# Altium schematic symbol library WE-TVSP.SchLib: 358 symbols (part 6 of 7)
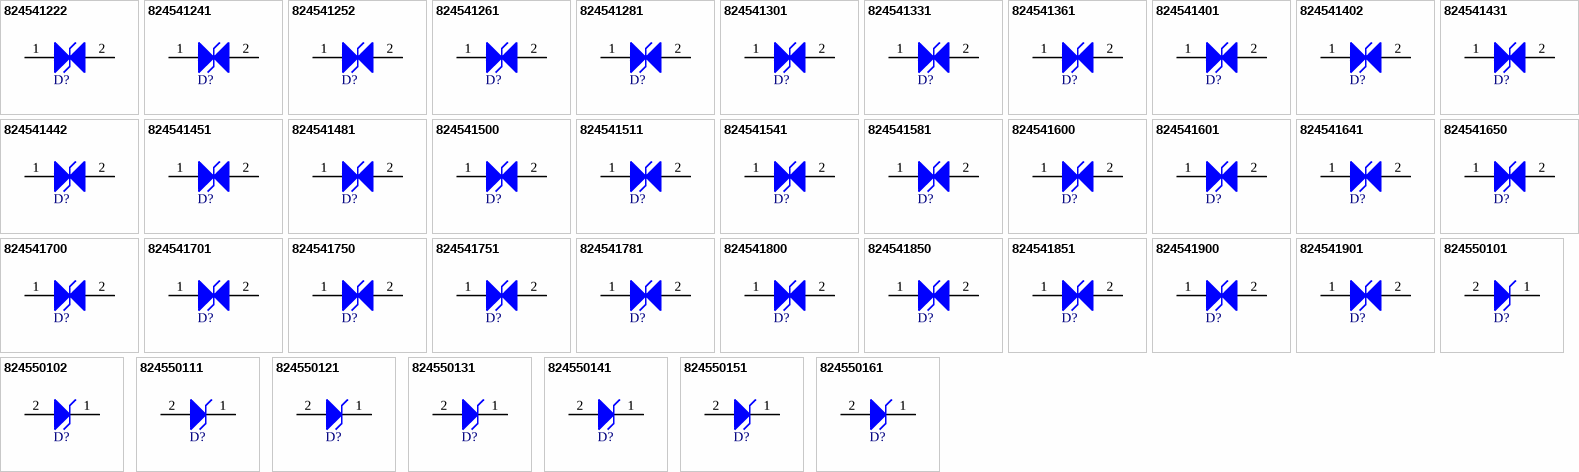
[diagram p13: symbols 824541222 to 824550161]

## 824550102
designator D?, comment 3000W, 100VDC  (value not drawn)
WE-TVSP SMT Power TVS Diode, DO-214AB, Unidirectional, 3000W, 100VDC; Manufacturer Part Number: 824550102; Manufacturer: Wurth Elektronik; Clamping Voltage: 162V; Operating Voltage (DC): 100V; (Reverse) Breakdown Voltage: 117V; (Reverse) Peak Pulse Current: 18.5A; ComponentLink1Description: Website Link; ComponentLink1URL: https://www.we-online.com/redexpert/article/824550102?ad; ComponentLink2Description: Datasheet Link; ComponentLink2URL: https://www.we-online.com/redexpert/spec/824550102?ad; Category: Surge Protection; Match Code: WE-TVSP; Mount: Surface Mount; Operating Temperature Max: 150°C; Operating Temperature Min: -65°C; Packaging: Tape and Reel; Case/Size Code: DO-214AB; Length: 6.86mm; Width: 5.9mm; Height: 2.5mm; Polarity: Unidirectional; Power Dissipation: 3000W
footprint WE-TVSP_DO-214AB_Unidirectional
pins: 1 K, 2 A

## 824550111
designator D?, comment 3000W, 11VDC  (value not drawn)
WE-TVSP SMT Power TVS Diode, DO-214AB, Unidirectional, 3000W, 11VDC; Manufacturer Part Number: 824550111; Manufacturer: Wurth Elektronik; Clamping Voltage: 18.2V; Operating Voltage (DC): 11V; (Reverse) Breakdown Voltage: 12.85V; (Reverse) Peak Pulse Current: 164.8A; ComponentLink1Description: Website Link; ComponentLink1URL: https://www.we-online.com/redexpert/article/824550111?ad; ComponentLink2Description: Datasheet Link; ComponentLink2URL: https://www.we-online.com/redexpert/spec/824550111?ad; Category: Surge Protection; Match Code: WE-TVSP; Mount: Surface Mount; Operating Temperature Max: 150°C; Operating Temperature Min: -65°C; Packaging: Tape and Reel; Case/Size Code: DO-214AB; Length: 6.86mm; Width: 5.9mm; Height: 2.5mm; Polarity: Unidirectional; Power Dissipation: 3000W
footprint WE-TVSP_DO-214AB_Unidirectional
pins: 1 K, 2 A

## 824550121
designator D?, comment 3000W, 12VDC  (value not drawn)
WE-TVSP SMT Power TVS Diode, DO-214AB, Unidirectional, 3000W, 12VDC; Manufacturer Part Number: 824550121; Manufacturer: Wurth Elektronik; Clamping Voltage: 19.9V; Operating Voltage (DC): 12V; (Reverse) Breakdown Voltage: 14V; (Reverse) Peak Pulse Current: 150.8A; ComponentLink1Description: Website Link; ComponentLink1URL: https://www.we-online.com/redexpert/article/824550121?ad; ComponentLink2Description: Datasheet Link; ComponentLink2URL: https://www.we-online.com/redexpert/spec/824550121?ad; Category: Surge Protection; Match Code: WE-TVSP; Mount: Surface Mount; Operating Temperature Max: 150°C; Operating Temperature Min: -65°C; Packaging: Tape and Reel; Case/Size Code: DO-214AB; Length: 6.86mm; Width: 5.9mm; Height: 2.5mm; Polarity: Unidirectional; Power Dissipation: 3000W
footprint WE-TVSP_DO-214AB_Unidirectional
pins: 1 K, 2 A

## 824550131
designator D?, comment 3000W, 13VDC  (value not drawn)
WE-TVSP SMT Power TVS Diode, DO-214AB, Unidirectional, 3000W, 13VDC; Manufacturer Part Number: 824550131; Manufacturer: Wurth Elektronik; Clamping Voltage: 21.5V; Operating Voltage (DC): 13V; (Reverse) Breakdown Voltage: 15.15V; (Reverse) Peak Pulse Current: 139.5A; ComponentLink1Description: Website Link; ComponentLink1URL: https://www.we-online.com/redexpert/article/824550131?ad; ComponentLink2Description: Datasheet Link; ComponentLink2URL: https://www.we-online.com/redexpert/spec/824550131?ad; Category: Surge Protection; Match Code: WE-TVSP; Mount: Surface Mount; Operating Temperature Max: 150°C; Operating Temperature Min: -65°C; Packaging: Tape and Reel; Case/Size Code: DO-214AB; Length: 6.86mm; Width: 5.9mm; Height: 2.5mm; Polarity: Unidirectional; Power Dissipation: 3000W
footprint WE-TVSP_DO-214AB_Unidirectional
pins: 1 K, 2 A

## 824550141
designator D?, comment 3000W, 14VDC  (value not drawn)
WE-TVSP SMT Power TVS Diode, DO-214AB, Unidirectional, 3000W, 14VDC; Manufacturer Part Number: 824550141; Manufacturer: Wurth Elektronik; Clamping Voltage: 23.2V; Operating Voltage (DC): 14V; (Reverse) Breakdown Voltage: 16.4V; (Reverse) Peak Pulse Current: 129.3A; ComponentLink1Description: Website Link; ComponentLink1URL: https://www.we-online.com/redexpert/article/824550141?ad; ComponentLink2Description: Datasheet Link; ComponentLink2URL: https://www.we-online.com/redexpert/spec/824550141?ad; Category: Surge Protection; Match Code: WE-TVSP; Mount: Surface Mount; Operating Temperature Max: 150°C; Operating Temperature Min: -65°C; Packaging: Tape and Reel; Case/Size Code: DO-214AB; Length: 6.86mm; Width: 5.9mm; Height: 2.5mm; Polarity: Unidirectional; Power Dissipation: 3000W
footprint WE-TVSP_DO-214AB_Unidirectional
pins: 1 K, 2 A

## 824550151
designator D?, comment 3000W, 15VDC  (value not drawn)
WE-TVSP SMT Power TVS Diode, DO-214AB, Unidirectional, 3000W, 15VDC; Manufacturer Part Number: 824550151; Manufacturer: Wurth Elektronik; Clamping Voltage: 24.4V; Operating Voltage (DC): 15V; (Reverse) Breakdown Voltage: 17.6V; (Reverse) Peak Pulse Current: 123A; ComponentLink1Description: Website Link; ComponentLink1URL: https://www.we-online.com/redexpert/article/824550151?ad; ComponentLink2Description: Datasheet Link; ComponentLink2URL: https://www.we-online.com/redexpert/spec/824550151?ad; Category: Surge Protection; Match Code: WE-TVSP; Mount: Surface Mount; Operating Temperature Max: 150°C; Operating Temperature Min: -65°C; Packaging: Tape and Reel; Case/Size Code: DO-214AB; Length: 6.86mm; Width: 5.9mm; Height: 2.5mm; Polarity: Unidirectional; Power Dissipation: 3000W
footprint WE-TVSP_DO-214AB_Unidirectional
pins: 1 K, 2 A

## 824550161
designator D?, comment 3000W, 16VDC  (value not drawn)
WE-TVSP SMT Power TVS Diode, DO-214AB, Unidirectional, 3000W, 16VDC; Manufacturer Part Number: 824550161; Manufacturer: Wurth Elektronik; Clamping Voltage: 26V; Operating Voltage (DC): 16V; (Reverse) Breakdown Voltage: 18.75V; (Reverse) Peak Pulse Current: 115.4A; ComponentLink1Description: Website Link; ComponentLink1URL: https://www.we-online.com/redexpert/article/824550161?ad; ComponentLink2Description: Datasheet Link; ComponentLink2URL: https://www.we-online.com/redexpert/spec/824550161?ad; Category: Surge Protection; Match Code: WE-TVSP; Mount: Surface Mount; Operating Temperature Max: 150°C; Operating Temperature Min: -65°C; Packaging: Tape and Reel; Case/Size Code: DO-214AB; Length: 6.86mm; Width: 5.9mm; Height: 2.5mm; Polarity: Unidirectional; Power Dissipation: 3000W
footprint WE-TVSP_DO-214AB_Unidirectional
pins: 1 K, 2 A

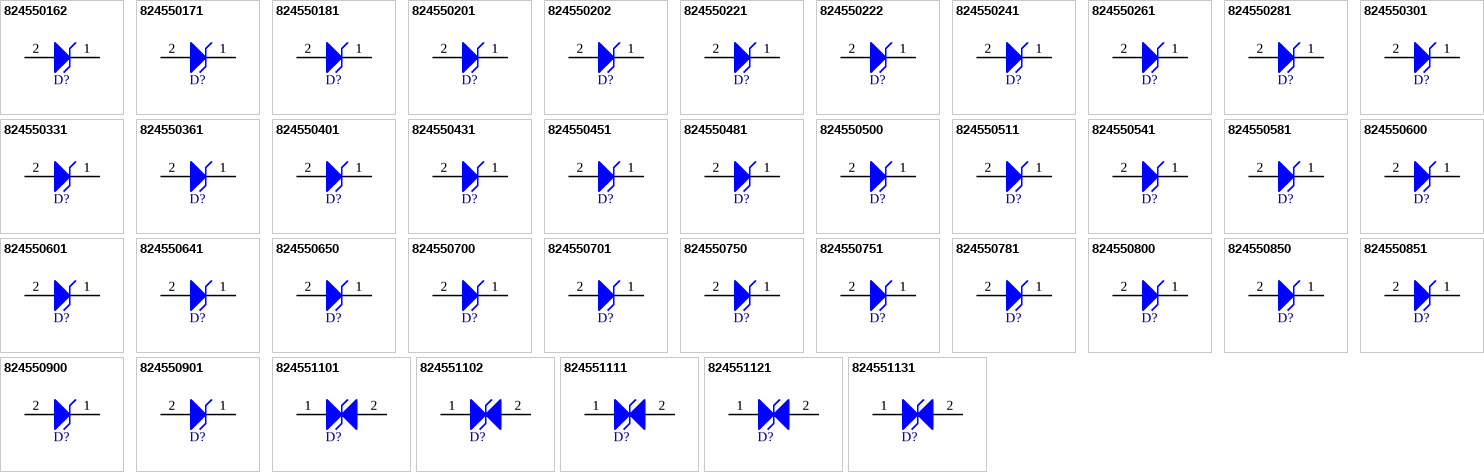
[diagram p7: symbols 824550162 to 824551131]

## 824550162
designator D?, comment 3000W, 160VDC  (value not drawn)
WE-TVSP SMT Power TVS Diode, DO-214AB, Unidirectional, 3000W, 160VDC; Manufacturer Part Number: 824550162; Manufacturer: Wurth Elektronik; Clamping Voltage: 259V; Operating Voltage (DC): 160V; (Reverse) Breakdown Voltage: 187.5V; (Reverse) Peak Pulse Current: 11.6A; ComponentLink1Description: Website Link; ComponentLink1URL: https://www.we-online.com/redexpert/article/824550162?ad; ComponentLink2Description: Datasheet Link; ComponentLink2URL: https://www.we-online.com/redexpert/spec/824550162?ad; Category: Surge Protection; Match Code: WE-TVSP; Mount: Surface Mount; Operating Temperature Max: 150°C; Operating Temperature Min: -65°C; Packaging: Tape and Reel; Case/Size Code: DO-214AB; Length: 6.86mm; Width: 5.9mm; Height: 2.5mm; Polarity: Unidirectional; Power Dissipation: 3000W
footprint WE-TVSP_DO-214AB_Unidirectional
pins: 1 K, 2 A

## 824550171
designator D?, comment 3000W, 17VDC  (value not drawn)
WE-TVSP SMT Power TVS Diode, DO-214AB, Unidirectional, 3000W, 17VDC; Manufacturer Part Number: 824550171; Manufacturer: Wurth Elektronik; Clamping Voltage: 27.6V; Operating Voltage (DC): 17V; (Reverse) Breakdown Voltage: 19.9V; (Reverse) Peak Pulse Current: 108.7A; ComponentLink1Description: Website Link; ComponentLink1URL: https://www.we-online.com/redexpert/article/824550171?ad; ComponentLink2Description: Datasheet Link; ComponentLink2URL: https://www.we-online.com/redexpert/spec/824550171?ad; Category: Surge Protection; Match Code: WE-TVSP; Mount: Surface Mount; Operating Temperature Max: 150°C; Operating Temperature Min: -65°C; Packaging: Tape and Reel; Case/Size Code: DO-214AB; Length: 6.86mm; Width: 5.9mm; Height: 2.5mm; Polarity: Unidirectional; Power Dissipation: 3000W
footprint WE-TVSP_DO-214AB_Unidirectional
pins: 1 K, 2 A

## 824550181
designator D?, comment 3000W, 18VDC  (value not drawn)
WE-TVSP SMT Power TVS Diode, DO-214AB, Unidirectional, 3000W, 18VDC; Manufacturer Part Number: 824550181; Manufacturer: Wurth Elektronik; Clamping Voltage: 29.2V; Operating Voltage (DC): 18V; (Reverse) Breakdown Voltage: 21.05V; (Reverse) Peak Pulse Current: 102.7A; ComponentLink1Description: Website Link; ComponentLink1URL: https://www.we-online.com/redexpert/article/824550181?ad; ComponentLink2Description: Datasheet Link; ComponentLink2URL: https://www.we-online.com/redexpert/spec/824550181?ad; Category: Surge Protection; Match Code: WE-TVSP; Mount: Surface Mount; Operating Temperature Max: 150°C; Operating Temperature Min: -65°C; Packaging: Tape and Reel; Case/Size Code: DO-214AB; Length: 6.86mm; Width: 5.9mm; Height: 2.5mm; Polarity: Unidirectional; Power Dissipation: 3000W
footprint WE-TVSP_DO-214AB_Unidirectional
pins: 1 K, 2 A

## 824550201
designator D?, comment 3000W, 20VDC  (value not drawn)
WE-TVSP SMT Power TVS Diode, DO-214AB, Unidirectional, 3000W, 20VDC; Manufacturer Part Number: 824550201; Manufacturer: Wurth Elektronik; Clamping Voltage: 32.4V; Operating Voltage (DC): 20V; (Reverse) Breakdown Voltage: 23.35V; (Reverse) Peak Pulse Current: 92.6A; ComponentLink1Description: Website Link; ComponentLink1URL: https://www.we-online.com/redexpert/article/824550201?ad; ComponentLink2Description: Datasheet Link; ComponentLink2URL: https://www.we-online.com/redexpert/spec/824550201?ad; Category: Surge Protection; Match Code: WE-TVSP; Mount: Surface Mount; Operating Temperature Max: 150°C; Operating Temperature Min: -65°C; Packaging: Tape and Reel; Case/Size Code: DO-214AB; Length: 6.86mm; Width: 5.9mm; Height: 2.5mm; Polarity: Unidirectional; Power Dissipation: 3000W
footprint WE-TVSP_DO-214AB_Unidirectional
pins: 1 K, 2 A

## 824550202
designator D?, comment 3000W, 200VDC  (value not drawn)
WE-TVSP SMT Power TVS Diode, DO-214AB, Unidirectional, 3000W, 200VDC; Manufacturer Part Number: 824550202; Manufacturer: Wurth Elektronik; Clamping Voltage: 324V; Operating Voltage (DC): 200V; (Reverse) Breakdown Voltage: 235.5V; (Reverse) Peak Pulse Current: 9.3A; ComponentLink1Description: Website Link; ComponentLink1URL: https://www.we-online.com/redexpert/article/824550202?ad; ComponentLink2Description: Datasheet Link; ComponentLink2URL: https://www.we-online.com/redexpert/spec/824550202?ad; Category: Surge Protection; Match Code: WE-TVSP; Mount: Surface Mount; Operating Temperature Max: 150°C; Operating Temperature Min: -65°C; Packaging: Tape and Reel; Case/Size Code: DO-214AB; Length: 6.86mm; Width: 5.9mm; Height: 2.5mm; Polarity: Unidirectional; Power Dissipation: 3000W
footprint WE-TVSP_DO-214AB_Unidirectional
pins: 1 K, 2 A

## 824550221
designator D?, comment 3000W, 22VDC  (value not drawn)
WE-TVSP SMT Power TVS Diode, DO-214AB, Unidirectional, 3000W, 22VDC; Manufacturer Part Number: 824550221; Manufacturer: Wurth Elektronik; Clamping Voltage: 35.5V; Operating Voltage (DC): 22V; (Reverse) Breakdown Voltage: 25.65V; (Reverse) Peak Pulse Current: 84.5A; ComponentLink1Description: Website Link; ComponentLink1URL: https://www.we-online.com/redexpert/article/824550221?ad; ComponentLink2Description: Datasheet Link; ComponentLink2URL: https://www.we-online.com/redexpert/spec/824550221?ad; Category: Surge Protection; Match Code: WE-TVSP; Mount: Surface Mount; Operating Temperature Max: 150°C; Operating Temperature Min: -65°C; Packaging: Tape and Reel; Case/Size Code: DO-214AB; Length: 6.86mm; Width: 5.9mm; Height: 2.5mm; Polarity: Unidirectional; Power Dissipation: 3000W
footprint WE-TVSP_DO-214AB_Unidirectional
pins: 1 K, 2 A

## 824550222
designator D?, comment 3000W, 220VDC  (value not drawn)
WE-TVSP SMT Power TVS Diode, DO-214AB, Unidirectional, 3000W, 220VDC; Manufacturer Part Number: 824550222; Manufacturer: Wurth Elektronik; Clamping Voltage: 356V; Operating Voltage (DC): 220V; (Reverse) Breakdown Voltage: 259V; (Reverse) Peak Pulse Current: 8.4A; ComponentLink1Description: Website Link; ComponentLink1URL: https://www.we-online.com/redexpert/article/824550222?ad; ComponentLink2Description: Datasheet Link; ComponentLink2URL: https://www.we-online.com/redexpert/spec/824550222?ad; Category: Surge Protection; Match Code: WE-TVSP; Mount: Surface Mount; Operating Temperature Max: 150°C; Operating Temperature Min: -65°C; Packaging: Tape and Reel; Case/Size Code: DO-214AB; Length: 6.86mm; Width: 5.9mm; Height: 2.5mm; Polarity: Unidirectional; Power Dissipation: 3000W
footprint WE-TVSP_DO-214AB_Unidirectional
pins: 1 K, 2 A

## 824550241
designator D?, comment 3000W, 24VDC  (value not drawn)
WE-TVSP SMT Power TVS Diode, DO-214AB, Unidirectional, 3000W, 24VDC; Manufacturer Part Number: 824550241; Manufacturer: Wurth Elektronik; Clamping Voltage: 38.9V; Operating Voltage (DC): 24V; (Reverse) Breakdown Voltage: 28.1V; (Reverse) Peak Pulse Current: 77.1A; ComponentLink1Description: Website Link; ComponentLink1URL: https://www.we-online.com/redexpert/article/824550241?ad; ComponentLink2Description: Datasheet Link; ComponentLink2URL: https://www.we-online.com/redexpert/spec/824550241?ad; Category: Surge Protection; Match Code: WE-TVSP; Mount: Surface Mount; Operating Temperature Max: 150°C; Operating Temperature Min: -65°C; Packaging: Tape and Reel; Case/Size Code: DO-214AB; Length: 6.86mm; Width: 5.9mm; Height: 2.5mm; Polarity: Unidirectional; Power Dissipation: 3000W
footprint WE-TVSP_DO-214AB_Unidirectional
pins: 1 K, 2 A

## 824550261
designator D?, comment 3000W, 26VDC  (value not drawn)
WE-TVSP SMT Power TVS Diode, DO-214AB, Unidirectional, 3000W, 26VDC; Manufacturer Part Number: 824550261; Manufacturer: Wurth Elektronik; Clamping Voltage: 42.1V; Operating Voltage (DC): 26V; (Reverse) Breakdown Voltage: 30.4V; (Reverse) Peak Pulse Current: 71.3A; ComponentLink1Description: Website Link; ComponentLink1URL: https://www.we-online.com/redexpert/article/824550261?ad; ComponentLink2Description: Datasheet Link; ComponentLink2URL: https://www.we-online.com/redexpert/spec/824550261?ad; Category: Surge Protection; Match Code: WE-TVSP; Mount: Surface Mount; Operating Temperature Max: 150°C; Operating Temperature Min: -65°C; Packaging: Tape and Reel; Case/Size Code: DO-214AB; Length: 6.86mm; Width: 5.9mm; Height: 2.5mm; Polarity: Unidirectional; Power Dissipation: 3000W
footprint WE-TVSP_DO-214AB_Unidirectional
pins: 1 K, 2 A

## 824550281
designator D?, comment 3000W, 28VDC  (value not drawn)
WE-TVSP SMT Power TVS Diode, DO-214AB, Unidirectional, 3000W, 28VDC; Manufacturer Part Number: 824550281; Manufacturer: Wurth Elektronik; Clamping Voltage: 45.4V; Operating Voltage (DC): 28V; (Reverse) Breakdown Voltage: 32.75V; (Reverse) Peak Pulse Current: 66.1A; ComponentLink1Description: Website Link; ComponentLink1URL: https://www.we-online.com/redexpert/article/824550281?ad; ComponentLink2Description: Datasheet Link; ComponentLink2URL: https://www.we-online.com/redexpert/spec/824550281?ad; Category: Surge Protection; Match Code: WE-TVSP; Mount: Surface Mount; Operating Temperature Max: 150°C; Operating Temperature Min: -65°C; Packaging: Tape and Reel; Case/Size Code: DO-214AB; Length: 6.86mm; Width: 5.9mm; Height: 2.5mm; Polarity: Unidirectional; Power Dissipation: 3000W
footprint WE-TVSP_DO-214AB_Unidirectional
pins: 1 K, 2 A

## 824550301
designator D?, comment 3000W, 30VDC  (value not drawn)
WE-TVSP SMT Power TVS Diode, DO-214AB, Unidirectional, 3000W, 30VDC; Manufacturer Part Number: 824550301; Manufacturer: Wurth Elektronik; Clamping Voltage: 48.4V; Operating Voltage (DC): 30V; (Reverse) Breakdown Voltage: 35.05V; (Reverse) Peak Pulse Current: 62A; ComponentLink1Description: Website Link; ComponentLink1URL: https://www.we-online.com/redexpert/article/824550301?ad; ComponentLink2Description: Datasheet Link; ComponentLink2URL: https://www.we-online.com/redexpert/spec/824550301?ad; Category: Surge Protection; Match Code: WE-TVSP; Mount: Surface Mount; Operating Temperature Max: 150°C; Operating Temperature Min: -65°C; Packaging: Tape and Reel; Case/Size Code: DO-214AB; Length: 6.86mm; Width: 5.9mm; Height: 2.5mm; Polarity: Unidirectional; Power Dissipation: 3000W
footprint WE-TVSP_DO-214AB_Unidirectional
pins: 1 K, 2 A

## 824550331
designator D?, comment 3000W, 33VDC  (value not drawn)
WE-TVSP SMT Power TVS Diode, DO-214AB, Unidirectional, 3000W, 33VDC; Manufacturer Part Number: 824550331; Manufacturer: Wurth Elektronik; Clamping Voltage: 53.3V; Operating Voltage (DC): 33V; (Reverse) Breakdown Voltage: 38.65V; (Reverse) Peak Pulse Current: 56.3A; ComponentLink1Description: Website Link; ComponentLink1URL: https://www.we-online.com/redexpert/article/824550331?ad; ComponentLink2Description: Datasheet Link; ComponentLink2URL: https://www.we-online.com/redexpert/spec/824550331?ad; Category: Surge Protection; Match Code: WE-TVSP; Mount: Surface Mount; Operating Temperature Max: 150°C; Operating Temperature Min: -65°C; Packaging: Tape and Reel; Case/Size Code: DO-214AB; Length: 6.86mm; Width: 5.9mm; Height: 2.5mm; Polarity: Unidirectional; Power Dissipation: 3000W
footprint WE-TVSP_DO-214AB_Unidirectional
pins: 1 K, 2 A

## 824550361
designator D?, comment 3000W, 36VDC  (value not drawn)
WE-TVSP SMT Power TVS Diode, DO-214AB, Unidirectional, 3000W, 36VDC; Manufacturer Part Number: 824550361; Manufacturer: Wurth Elektronik; Clamping Voltage: 58.1V; Operating Voltage (DC): 36V; (Reverse) Breakdown Voltage: 42.1V; (Reverse) Peak Pulse Current: 51.6A; ComponentLink1Description: Website Link; ComponentLink1URL: https://www.we-online.com/redexpert/article/824550361?ad; ComponentLink2Description: Datasheet Link; ComponentLink2URL: https://www.we-online.com/redexpert/spec/824550361?ad; Category: Surge Protection; Match Code: WE-TVSP; Mount: Surface Mount; Operating Temperature Max: 150°C; Operating Temperature Min: -65°C; Packaging: Tape and Reel; Case/Size Code: DO-214AB; Length: 6.86mm; Width: 5.9mm; Height: 2.5mm; Polarity: Unidirectional; Power Dissipation: 3000W
footprint WE-TVSP_DO-214AB_Unidirectional
pins: 1 K, 2 A

## 824550401
designator D?, comment 3000W, 40VDC  (value not drawn)
WE-TVSP SMT Power TVS Diode, DO-214AB, Unidirectional, 3000W, 40VDC; Manufacturer Part Number: 824550401; Manufacturer: Wurth Elektronik; Clamping Voltage: 64.5V; Operating Voltage (DC): 40V; (Reverse) Breakdown Voltage: 46.75V; (Reverse) Peak Pulse Current: 46.5A; ComponentLink1Description: Website Link; ComponentLink1URL: https://www.we-online.com/redexpert/article/824550401?ad; ComponentLink2Description: Datasheet Link; ComponentLink2URL: https://www.we-online.com/redexpert/spec/824550401?ad; Category: Surge Protection; Match Code: WE-TVSP; Mount: Surface Mount; Operating Temperature Max: 150°C; Operating Temperature Min: -65°C; Packaging: Tape and Reel; Case/Size Code: DO-214AB; Length: 6.86mm; Width: 5.9mm; Height: 2.5mm; Polarity: Unidirectional; Power Dissipation: 3000W
footprint WE-TVSP_DO-214AB_Unidirectional
pins: 1 K, 2 A

## 824550431
designator D?, comment 3000W, 43VDC  (value not drawn)
WE-TVSP SMT Power TVS Diode, DO-214AB, Unidirectional, 3000W, 43VDC; Manufacturer Part Number: 824550431; Manufacturer: Wurth Elektronik; Clamping Voltage: 69.4V; Operating Voltage (DC): 43V; (Reverse) Breakdown Voltage: 50.3V; (Reverse) Peak Pulse Current: 43.2A; ComponentLink1Description: Website Link; ComponentLink1URL: https://www.we-online.com/redexpert/article/824550431?ad; ComponentLink2Description: Datasheet Link; ComponentLink2URL: https://www.we-online.com/redexpert/spec/824550431?ad; Category: Surge Protection; Match Code: WE-TVSP; Mount: Surface Mount; Operating Temperature Max: 150°C; Operating Temperature Min: -65°C; Packaging: Tape and Reel; Case/Size Code: DO-214AB; Length: 6.86mm; Width: 5.9mm; Height: 2.5mm; Polarity: Unidirectional; Power Dissipation: 3000W
footprint WE-TVSP_DO-214AB_Unidirectional
pins: 1 K, 2 A

## 824550451
designator D?, comment 3000W, 45VDC  (value not drawn)
WE-TVSP SMT Power TVS Diode, DO-214AB, Unidirectional, 3000W, 45VDC; Manufacturer Part Number: 824550451; Manufacturer: Wurth Elektronik; Clamping Voltage: 72.2V; Operating Voltage (DC): 45V; (Reverse) Breakdown Voltage: 52.65V; (Reverse) Peak Pulse Current: 41.3A; ComponentLink1Description: Website Link; ComponentLink1URL: https://www.we-online.com/redexpert/article/824550451?ad; ComponentLink2Description: Datasheet Link; ComponentLink2URL: https://www.we-online.com/redexpert/spec/824550451?ad; Category: Surge Protection; Match Code: WE-TVSP; Mount: Surface Mount; Operating Temperature Max: 150°C; Operating Temperature Min: -65°C; Packaging: Tape and Reel; Case/Size Code: DO-214AB; Length: 6.86mm; Width: 5.9mm; Height: 2.5mm; Polarity: Unidirectional; Power Dissipation: 3000W
footprint WE-TVSP_DO-214AB_Unidirectional
pins: 1 K, 2 A

## 824550481
designator D?, comment 3000W, 48VDC  (value not drawn)
WE-TVSP SMT Power TVS Diode, DO-214AB, Unidirectional, 3000W, 48VDC; Manufacturer Part Number: 824550481; Manufacturer: Wurth Elektronik; Clamping Voltage: 77.4V; Operating Voltage (DC): 48V; (Reverse) Breakdown Voltage: 56.1V; (Reverse) Peak Pulse Current: 38.8A; ComponentLink1Description: Website Link; ComponentLink1URL: https://www.we-online.com/redexpert/article/824550481?ad; ComponentLink2Description: Datasheet Link; ComponentLink2URL: https://www.we-online.com/redexpert/spec/824550481?ad; Category: Surge Protection; Match Code: WE-TVSP; Mount: Surface Mount; Operating Temperature Max: 150°C; Operating Temperature Min: -65°C; Packaging: Tape and Reel; Case/Size Code: DO-214AB; Length: 6.86mm; Width: 5.9mm; Height: 2.5mm; Polarity: Unidirectional; Power Dissipation: 3000W
footprint WE-TVSP_DO-214AB_Unidirectional
pins: 1 K, 2 A

## 824550500
designator D?, comment 3000W, 5VDC  (value not drawn)
WE-TVSP SMT Power TVS Diode, DO-214AB, Unidirectional, 3000W, 5VDC; Manufacturer Part Number: 824550500; Manufacturer: Wurth Elektronik; Clamping Voltage: 9.2V; Operating Voltage (DC): 5V; (Reverse) Breakdown Voltage: 6.7V; (Reverse) Peak Pulse Current: 326.1A; ComponentLink1Description: Website Link; ComponentLink1URL: https://www.we-online.com/redexpert/article/824550500?ad; ComponentLink2Description: Datasheet Link; ComponentLink2URL: https://www.we-online.com/redexpert/spec/824550500?ad; Category: Surge Protection; Match Code: WE-TVSP; Mount: Surface Mount; Operating Temperature Max: 150°C; Operating Temperature Min: -65°C; Packaging: Tape and Reel; Case/Size Code: DO-214AB; Length: 6.86mm; Width: 5.9mm; Height: 2.5mm; Polarity: Unidirectional; Power Dissipation: 3000W
footprint WE-TVSP_DO-214AB_Unidirectional
pins: 1 K, 2 A

## 824550511
designator D?, comment 3000W, 51VDC  (value not drawn)
WE-TVSP SMT Power TVS Diode, DO-214AB, Unidirectional, 3000W, 51VDC; Manufacturer Part Number: 824550511; Manufacturer: Wurth Elektronik; Clamping Voltage: 82.4V; Operating Voltage (DC): 51V; (Reverse) Breakdown Voltage: 59.7V; (Reverse) Peak Pulse Current: 36.4A; ComponentLink1Description: Website Link; ComponentLink1URL: https://www.we-online.com/redexpert/article/824550511?ad; ComponentLink2Description: Datasheet Link; ComponentLink2URL: https://www.we-online.com/redexpert/spec/824550511?ad; Category: Surge Protection; Match Code: WE-TVSP; Mount: Surface Mount; Operating Temperature Max: 150°C; Operating Temperature Min: -65°C; Packaging: Tape and Reel; Case/Size Code: DO-214AB; Length: 6.86mm; Width: 5.9mm; Height: 2.5mm; Polarity: Unidirectional; Power Dissipation: 3000W
footprint WE-TVSP_DO-214AB_Unidirectional
pins: 1 K, 2 A

## 824550541
designator D?, comment 3000W, 54VDC  (value not drawn)
WE-TVSP SMT Power TVS Diode, DO-214AB, Unidirectional, 3000W, 54VDC; Manufacturer Part Number: 824550541; Manufacturer: Wurth Elektronik; Clamping Voltage: 87.1V; Operating Voltage (DC): 54V; (Reverse) Breakdown Voltage: 63.15V; (Reverse) Peak Pulse Current: 34.4A; ComponentLink1Description: Website Link; ComponentLink1URL: https://www.we-online.com/redexpert/article/824550541?ad; ComponentLink2Description: Datasheet Link; ComponentLink2URL: https://www.we-online.com/redexpert/spec/824550541?ad; Category: Surge Protection; Match Code: WE-TVSP; Mount: Surface Mount; Operating Temperature Max: 150°C; Operating Temperature Min: -65°C; Packaging: Tape and Reel; Case/Size Code: DO-214AB; Length: 6.86mm; Width: 5.9mm; Height: 2.5mm; Polarity: Unidirectional; Power Dissipation: 3000W
footprint WE-TVSP_DO-214AB_Unidirectional
pins: 1 K, 2 A

## 824550581
designator D?, comment 3000W, 58VDC  (value not drawn)
WE-TVSP SMT Power TVS Diode, DO-214AB, Unidirectional, 3000W, 58VDC; Manufacturer Part Number: 824550581; Manufacturer: Wurth Elektronik; Clamping Voltage: 93.6V; Operating Voltage (DC): 58V; (Reverse) Breakdown Voltage: 67.8V; (Reverse) Peak Pulse Current: 32.1A; ComponentLink1Description: Website Link; ComponentLink1URL: https://www.we-online.com/redexpert/article/824550581?ad; ComponentLink2Description: Datasheet Link; ComponentLink2URL: https://www.we-online.com/redexpert/spec/824550581?ad; Category: Surge Protection; Match Code: WE-TVSP; Mount: Surface Mount; Operating Temperature Max: 150°C; Operating Temperature Min: -65°C; Packaging: Tape and Reel; Case/Size Code: DO-214AB; Length: 6.86mm; Width: 5.9mm; Height: 2.5mm; Polarity: Unidirectional; Power Dissipation: 3000W
footprint WE-TVSP_DO-214AB_Unidirectional
pins: 1 K, 2 A

## 824550600
designator D?, comment 3000W, 6VDC  (value not drawn)
WE-TVSP SMT Power TVS Diode, DO-214AB, Unidirectional, 3000W, 6VDC; Manufacturer Part Number: 824550600; Manufacturer: Wurth Elektronik; Clamping Voltage: 10.3V; Operating Voltage (DC): 6V; (Reverse) Breakdown Voltage: 7.02V; (Reverse) Peak Pulse Current: 291.3A; ComponentLink1Description: Website Link; ComponentLink1URL: https://www.we-online.com/redexpert/article/824550600?ad; ComponentLink2Description: Datasheet Link; ComponentLink2URL: https://www.we-online.com/redexpert/spec/824550600?ad; Category: Surge Protection; Match Code: WE-TVSP; Mount: Surface Mount; Operating Temperature Max: 150°C; Operating Temperature Min: -65°C; Packaging: Tape and Reel; Case/Size Code: DO-214AB; Length: 6.86mm; Width: 5.9mm; Height: 2.5mm; Polarity: Unidirectional; Power Dissipation: 3000W
footprint WE-TVSP_DO-214AB_Unidirectional
pins: 1 K, 2 A

## 824550601
designator D?, comment 3000W, 60VDC  (value not drawn)
WE-TVSP SMT Power TVS Diode, DO-214AB, Unidirectional, 3000W, 60VDC; Manufacturer Part Number: 824550601; Manufacturer: Wurth Elektronik; Clamping Voltage: 96.8V; Operating Voltage (DC): 60V; (Reverse) Breakdown Voltage: 70.2V; (Reverse) Peak Pulse Current: 31A; ComponentLink1Description: Website Link; ComponentLink1URL: https://www.we-online.com/redexpert/article/824550601?ad; ComponentLink2Description: Datasheet Link; ComponentLink2URL: https://www.we-online.com/redexpert/spec/824550601?ad; Category: Surge Protection; Match Code: WE-TVSP; Mount: Surface Mount; Operating Temperature Max: 150°C; Operating Temperature Min: -65°C; Packaging: Tape and Reel; Case/Size Code: DO-214AB; Length: 6.86mm; Width: 5.9mm; Height: 2.5mm; Polarity: Unidirectional; Power Dissipation: 3000W
footprint WE-TVSP_DO-214AB_Unidirectional
pins: 1 K, 2 A

## 824550641
designator D?, comment 3000W, 64VDC  (value not drawn)
WE-TVSP SMT Power TVS Diode, DO-214AB, Unidirectional, 3000W, 64VDC; Manufacturer Part Number: 824550641; Manufacturer: Wurth Elektronik; Clamping Voltage: 103V; Operating Voltage (DC): 64V; (Reverse) Breakdown Voltage: 74.85V; (Reverse) Peak Pulse Current: 29.1A; ComponentLink1Description: Website Link; ComponentLink1URL: https://www.we-online.com/redexpert/article/824550641?ad; ComponentLink2Description: Datasheet Link; ComponentLink2URL: https://www.we-online.com/redexpert/spec/824550641?ad; Category: Surge Protection; Match Code: WE-TVSP; Mount: Surface Mount; Operating Temperature Max: 150°C; Operating Temperature Min: -65°C; Packaging: Tape and Reel; Case/Size Code: DO-214AB; Length: 6.86mm; Width: 5.9mm; Height: 2.5mm; Polarity: Unidirectional; Power Dissipation: 3000W
footprint WE-TVSP_DO-214AB_Unidirectional
pins: 1 K, 2 A

## 824550650
designator D?, comment 3000W, 6.5VDC  (value not drawn)
WE-TVSP SMT Power TVS Diode, DO-214AB, Unidirectional, 3000W, 6.5VDC; Manufacturer Part Number: 824550650; Manufacturer: Wurth Elektronik; Clamping Voltage: 11.2V; Operating Voltage (DC): 6.5V; (Reverse) Breakdown Voltage: 7.6V; (Reverse) Peak Pulse Current: 267.9A; ComponentLink1Description: Website Link; ComponentLink1URL: https://www.we-online.com/redexpert/article/824550650?ad; ComponentLink2Description: Datasheet Link; ComponentLink2URL: https://www.we-online.com/redexpert/spec/824550650?ad; Category: Surge Protection; Match Code: WE-TVSP; Mount: Surface Mount; Operating Temperature Max: 150°C; Operating Temperature Min: -65°C; Packaging: Tape and Reel; Case/Size Code: DO-214AB; Length: 6.86mm; Width: 5.9mm; Height: 2.5mm; Polarity: Unidirectional; Power Dissipation: 3000W
footprint WE-TVSP_DO-214AB_Unidirectional
pins: 1 K, 2 A

## 824550700
designator D?, comment 3000W, 7VDC  (value not drawn)
WE-TVSP SMT Power TVS Diode, DO-214AB, Unidirectional, 3000W, 7VDC; Manufacturer Part Number: 824550700; Manufacturer: Wurth Elektronik; Clamping Voltage: 12V; Operating Voltage (DC): 7V; (Reverse) Breakdown Voltage: 8.19V; (Reverse) Peak Pulse Current: 250A; ComponentLink1Description: Website Link; ComponentLink1URL: https://www.we-online.com/redexpert/article/824550700?ad; ComponentLink2Description: Datasheet Link; ComponentLink2URL: https://www.we-online.com/redexpert/spec/824550700?ad; Category: Surge Protection; Match Code: WE-TVSP; Mount: Surface Mount; Operating Temperature Max: 150°C; Operating Temperature Min: -65°C; Packaging: Tape and Reel; Case/Size Code: DO-214AB; Length: 6.86mm; Width: 5.9mm; Height: 2.5mm; Polarity: Unidirectional; Power Dissipation: 3000W
footprint WE-TVSP_DO-214AB_Unidirectional
pins: 1 K, 2 A

## 824550701
designator D?, comment 3000W, 70VDC  (value not drawn)
WE-TVSP SMT Power TVS Diode, DO-214AB, Unidirectional, 3000W, 70VDC; Manufacturer Part Number: 824550701; Manufacturer: Wurth Elektronik; Clamping Voltage: 113V; Operating Voltage (DC): 70V; (Reverse) Breakdown Voltage: 81.9V; (Reverse) Peak Pulse Current: 26.5A; ComponentLink1Description: Website Link; ComponentLink1URL: https://www.we-online.com/redexpert/article/824550701?ad; ComponentLink2Description: Datasheet Link; ComponentLink2URL: https://www.we-online.com/redexpert/spec/824550701?ad; Category: Surge Protection; Match Code: WE-TVSP; Mount: Surface Mount; Operating Temperature Max: 150°C; Operating Temperature Min: -65°C; Packaging: Tape and Reel; Case/Size Code: DO-214AB; Length: 6.86mm; Width: 5.9mm; Height: 2.5mm; Polarity: Unidirectional; Power Dissipation: 3000W
footprint WE-TVSP_DO-214AB_Unidirectional
pins: 1 K, 2 A

## 824550750
designator D?, comment 3000W, 7.5VDC  (value not drawn)
WE-TVSP SMT Power TVS Diode, DO-214AB, Unidirectional, 3000W, 7.5VDC; Manufacturer Part Number: 824550750; Manufacturer: Wurth Elektronik; Clamping Voltage: 12.9V; Operating Voltage (DC): 7.5V; (Reverse) Breakdown Voltage: 8.77V; (Reverse) Peak Pulse Current: 232.6A; ComponentLink1Description: Website Link; ComponentLink1URL: https://www.we-online.com/redexpert/article/824550750?ad; ComponentLink2Description: Datasheet Link; ComponentLink2URL: https://www.we-online.com/redexpert/spec/824550750?ad; Category: Surge Protection; Match Code: WE-TVSP; Mount: Surface Mount; Operating Temperature Max: 150°C; Operating Temperature Min: -65°C; Packaging: Tape and Reel; Case/Size Code: DO-214AB; Length: 6.86mm; Width: 5.9mm; Height: 2.5mm; Polarity: Unidirectional; Power Dissipation: 3000W
footprint WE-TVSP_DO-214AB_Unidirectional
pins: 1 K, 2 A

## 824550751
designator D?, comment 3000W, 75VDC  (value not drawn)
WE-TVSP SMT Power TVS Diode, DO-214AB, Unidirectional, 3000W, 75VDC; Manufacturer Part Number: 824550751; Manufacturer: Wurth Elektronik; Clamping Voltage: 121V; Operating Voltage (DC): 75V; (Reverse) Breakdown Voltage: 87.7V; (Reverse) Peak Pulse Current: 24.8A; ComponentLink1Description: Website Link; ComponentLink1URL: https://www.we-online.com/redexpert/article/824550751?ad; ComponentLink2Description: Datasheet Link; ComponentLink2URL: https://www.we-online.com/redexpert/spec/824550751?ad; Category: Surge Protection; Match Code: WE-TVSP; Mount: Surface Mount; Operating Temperature Max: 150°C; Operating Temperature Min: -65°C; Packaging: Tape and Reel; Case/Size Code: DO-214AB; Length: 6.86mm; Width: 5.9mm; Height: 2.5mm; Polarity: Unidirectional; Power Dissipation: 3000W
footprint WE-TVSP_DO-214AB_Unidirectional
pins: 1 K, 2 A

## 824550781
designator D?, comment 3000W, 78VDC  (value not drawn)
WE-TVSP SMT Power TVS Diode, DO-214AB, Unidirectional, 3000W, 78VDC; Manufacturer Part Number: 824550781; Manufacturer: Wurth Elektronik; Clamping Voltage: 126V; Operating Voltage (DC): 78V; (Reverse) Breakdown Voltage: 91.25V; (Reverse) Peak Pulse Current: 23.8A; ComponentLink1Description: Website Link; ComponentLink1URL: https://www.we-online.com/redexpert/article/824550781?ad; ComponentLink2Description: Datasheet Link; ComponentLink2URL: https://www.we-online.com/redexpert/spec/824550781?ad; Category: Surge Protection; Match Code: WE-TVSP; Mount: Surface Mount; Operating Temperature Max: 150°C; Operating Temperature Min: -65°C; Packaging: Tape and Reel; Case/Size Code: DO-214AB; Length: 6.86mm; Width: 5.9mm; Height: 2.5mm; Polarity: Unidirectional; Power Dissipation: 3000W
footprint WE-TVSP_DO-214AB_Unidirectional
pins: 1 K, 2 A

## 824550800
designator D?, comment 3000W, 8VDC  (value not drawn)
WE-TVSP SMT Power TVS Diode, DO-214AB, Unidirectional, 3000W, 8VDC; Manufacturer Part Number: 824550800; Manufacturer: Wurth Elektronik; Clamping Voltage: 13.6V; Operating Voltage (DC): 8V; (Reverse) Breakdown Voltage: 9.36V; (Reverse) Peak Pulse Current: 220.6A; ComponentLink1Description: Website Link; ComponentLink1URL: https://www.we-online.com/redexpert/article/824550800?ad; ComponentLink2Description: Datasheet Link; ComponentLink2URL: https://www.we-online.com/redexpert/spec/824550800?ad; Category: Surge Protection; Match Code: WE-TVSP; Mount: Surface Mount; Operating Temperature Max: 150°C; Operating Temperature Min: -65°C; Packaging: Tape and Reel; Case/Size Code: DO-214AB; Length: 6.86mm; Width: 5.9mm; Height: 2.5mm; Polarity: Unidirectional; Power Dissipation: 3000W
footprint WE-TVSP_DO-214AB_Unidirectional
pins: 1 K, 2 A

## 824550850
designator D?, comment 3000W, 8.5VDC  (value not drawn)
WE-TVSP SMT Power TVS Diode, DO-214AB, Unidirectional, 3000W, 8.5VDC; Manufacturer Part Number: 824550850; Manufacturer: Wurth Elektronik; Clamping Voltage: 14.4V; Operating Voltage (DC): 8.5V; (Reverse) Breakdown Voltage: 9.92V; (Reverse) Peak Pulse Current: 208.3A; ComponentLink1Description: Website Link; ComponentLink1URL: https://www.we-online.com/redexpert/article/824550850?ad; ComponentLink2Description: Datasheet Link; ComponentLink2URL: https://www.we-online.com/redexpert/spec/824550850?ad; Category: Surge Protection; Match Code: WE-TVSP; Mount: Surface Mount; Operating Temperature Max: 150°C; Operating Temperature Min: -65°C; Packaging: Tape and Reel; Case/Size Code: DO-214AB; Length: 6.86mm; Width: 5.9mm; Height: 2.5mm; Polarity: Unidirectional; Power Dissipation: 3000W
footprint WE-TVSP_DO-214AB_Unidirectional
pins: 1 K, 2 A

## 824550851
designator D?, comment 3000W, 85VDC  (value not drawn)
WE-TVSP SMT Power TVS Diode, DO-214AB, Unidirectional, 3000W, 85VDC; Manufacturer Part Number: 824550851; Manufacturer: Wurth Elektronik; Clamping Voltage: 137V; Operating Voltage (DC): 85V; (Reverse) Breakdown Voltage: 99.2V; (Reverse) Peak Pulse Current: 21.9A; ComponentLink1Description: Website Link; ComponentLink1URL: https://www.we-online.com/redexpert/article/824550851?ad; ComponentLink2Description: Datasheet Link; ComponentLink2URL: https://www.we-online.com/redexpert/spec/824550851?ad; Category: Surge Protection; Match Code: WE-TVSP; Mount: Surface Mount; Operating Temperature Max: 150°C; Operating Temperature Min: -65°C; Packaging: Tape and Reel; Case/Size Code: DO-214AB; Length: 6.86mm; Width: 5.9mm; Height: 2.5mm; Polarity: Unidirectional; Power Dissipation: 3000W
footprint WE-TVSP_DO-214AB_Unidirectional
pins: 1 K, 2 A

## 824550900
designator D?, comment 3000W, 9VDC  (value not drawn)
WE-TVSP SMT Power TVS Diode, DO-214AB, Unidirectional, 3000W, 9VDC; Manufacturer Part Number: 824550900; Manufacturer: Wurth Elektronik; Clamping Voltage: 15.4V; Operating Voltage (DC): 9V; (Reverse) Breakdown Voltage: 10.55V; (Reverse) Peak Pulse Current: 194.8A; ComponentLink1Description: Website Link; ComponentLink1URL: https://www.we-online.com/redexpert/article/824550900?ad; ComponentLink2Description: Datasheet Link; ComponentLink2URL: https://www.we-online.com/redexpert/spec/824550900?ad; Category: Surge Protection; Match Code: WE-TVSP; Mount: Surface Mount; Operating Temperature Max: 150°C; Operating Temperature Min: -65°C; Packaging: Tape and Reel; Case/Size Code: DO-214AB; Length: 6.86mm; Width: 5.9mm; Height: 2.5mm; Polarity: Unidirectional; Power Dissipation: 3000W
footprint WE-TVSP_DO-214AB_Unidirectional
pins: 1 K, 2 A

## 824550901
designator D?, comment 3000W, 90VDC  (value not drawn)
WE-TVSP SMT Power TVS Diode, DO-214AB, Unidirectional, 3000W, 90VDC; Manufacturer Part Number: 824550901; Manufacturer: Wurth Elektronik; Clamping Voltage: 146V; Operating Voltage (DC): 90V; (Reverse) Breakdown Voltage: 105.5V; (Reverse) Peak Pulse Current: 20.5A; ComponentLink1Description: Website Link; ComponentLink1URL: https://www.we-online.com/redexpert/article/824550901?ad; ComponentLink2Description: Datasheet Link; ComponentLink2URL: https://www.we-online.com/redexpert/spec/824550901?ad; Category: Surge Protection; Match Code: WE-TVSP; Mount: Surface Mount; Operating Temperature Max: 150°C; Operating Temperature Min: -65°C; Packaging: Tape and Reel; Case/Size Code: DO-214AB; Length: 6.86mm; Width: 5.9mm; Height: 2.5mm; Polarity: Unidirectional; Power Dissipation: 3000W
footprint WE-TVSP_DO-214AB_Unidirectional
pins: 1 K, 2 A

## 824551101
designator D?, comment 3000W, 10VDC  (value not drawn)
WE-TVSP SMT Power TVS Diode, DO-214AB, Bidirectional, 3000W, 10VDC; Manufacturer Part Number: 824551101; Manufacturer: Wurth Elektronik; Clamping Voltage: 17V; Operating Voltage (DC): 10V; (Reverse) Breakdown Voltage: 11.7V; (Reverse) Peak Pulse Current: 176.5A; ComponentLink1Description: Website Link; ComponentLink1URL: https://www.we-online.com/redexpert/article/824551101?ad; ComponentLink2Description: Datasheet Link; ComponentLink2URL: https://www.we-online.com/redexpert/spec/824551101?ad; Category: Surge Protection; Match Code: WE-TVSP; Mount: Surface Mount; Operating Temperature Max: 150°C; Operating Temperature Min: -65°C; Packaging: Tape and Reel; Case/Size Code: DO-214AB; Length: 6.86mm; Width: 5.9mm; Height: 2.5mm; Polarity: Bidirectional; Power Dissipation: 3000W
footprint WE-TVSP_DO-214AB_Bidirectional
pins: 1, 2

## 824551102
designator D?, comment 3000W, 100VDC  (value not drawn)
WE-TVSP SMT Power TVS Diode, DO-214AB, Bidirectional, 3000W, 100VDC; Manufacturer Part Number: 824551102; Manufacturer: Wurth Elektronik; Clamping Voltage: 162V; Operating Voltage (DC): 100V; (Reverse) Breakdown Voltage: 117V; (Reverse) Peak Pulse Current: 18.5A; ComponentLink1Description: Website Link; ComponentLink1URL: https://www.we-online.com/redexpert/article/824551102?ad; ComponentLink2Description: Datasheet Link; ComponentLink2URL: https://www.we-online.com/redexpert/spec/824551102?ad; Category: Surge Protection; Match Code: WE-TVSP; Mount: Surface Mount; Operating Temperature Max: 150°C; Operating Temperature Min: -65°C; Packaging: Tape and Reel; Case/Size Code: DO-214AB; Length: 6.86mm; Width: 5.9mm; Height: 2.5mm; Polarity: Bidirectional; Power Dissipation: 3000W
footprint WE-TVSP_DO-214AB_Bidirectional
pins: 1, 2

## 824551111
designator D?, comment 3000W, 11VDC  (value not drawn)
WE-TVSP SMT Power TVS Diode, DO-214AB, Bidirectional, 3000W, 11VDC; Manufacturer Part Number: 824551111; Manufacturer: Wurth Elektronik; Clamping Voltage: 18.2V; Operating Voltage (DC): 11V; (Reverse) Breakdown Voltage: 12.85V; (Reverse) Peak Pulse Current: 164.8A; ComponentLink1Description: Website Link; ComponentLink1URL: https://www.we-online.com/redexpert/article/824551111?ad; ComponentLink2Description: Datasheet Link; ComponentLink2URL: https://www.we-online.com/redexpert/spec/824551111?ad; Category: Surge Protection; Match Code: WE-TVSP; Mount: Surface Mount; Operating Temperature Max: 150°C; Operating Temperature Min: -65°C; Packaging: Tape and Reel; Case/Size Code: DO-214AB; Length: 6.86mm; Width: 5.9mm; Height: 2.5mm; Polarity: Bidirectional; Power Dissipation: 3000W
footprint WE-TVSP_DO-214AB_Bidirectional
pins: 1, 2

## 824551121
designator D?, comment 3000W, 12VDC  (value not drawn)
WE-TVSP SMT Power TVS Diode, DO-214AB, Bidirectional, 3000W, 12VDC; Manufacturer Part Number: 824551121; Manufacturer: Wurth Elektronik; Clamping Voltage: 19.9V; Operating Voltage (DC): 12V; (Reverse) Breakdown Voltage: 14V; (Reverse) Peak Pulse Current: 150.8A; ComponentLink1Description: Website Link; ComponentLink1URL: https://www.we-online.com/redexpert/article/824551121?ad; ComponentLink2Description: Datasheet Link; ComponentLink2URL: https://www.we-online.com/redexpert/spec/824551121?ad; Category: Surge Protection; Match Code: WE-TVSP; Mount: Surface Mount; Operating Temperature Max: 150°C; Operating Temperature Min: -65°C; Packaging: Tape and Reel; Case/Size Code: DO-214AB; Length: 6.86mm; Width: 5.9mm; Height: 2.5mm; Polarity: Bidirectional; Power Dissipation: 3000W
footprint WE-TVSP_DO-214AB_Bidirectional
pins: 1, 2

## 824551131
designator D?, comment 3000W, 13VDC  (value not drawn)
WE-TVSP SMT Power TVS Diode, DO-214AB, Bidirectional, 3000W, 13VDC; Manufacturer Part Number: 824551131; Manufacturer: Wurth Elektronik; Clamping Voltage: 21.5V; Operating Voltage (DC): 13V; (Reverse) Breakdown Voltage: 15.15V; (Reverse) Peak Pulse Current: 139.5A; ComponentLink1Description: Website Link; ComponentLink1URL: https://www.we-online.com/redexpert/article/824551131?ad; ComponentLink2Description: Datasheet Link; ComponentLink2URL: https://www.we-online.com/redexpert/spec/824551131?ad; Category: Surge Protection; Match Code: WE-TVSP; Mount: Surface Mount; Operating Temperature Max: 150°C; Operating Temperature Min: -65°C; Packaging: Tape and Reel; Case/Size Code: DO-214AB; Length: 6.86mm; Width: 5.9mm; Height: 2.5mm; Polarity: Bidirectional; Power Dissipation: 3000W
footprint WE-TVSP_DO-214AB_Bidirectional
pins: 1, 2

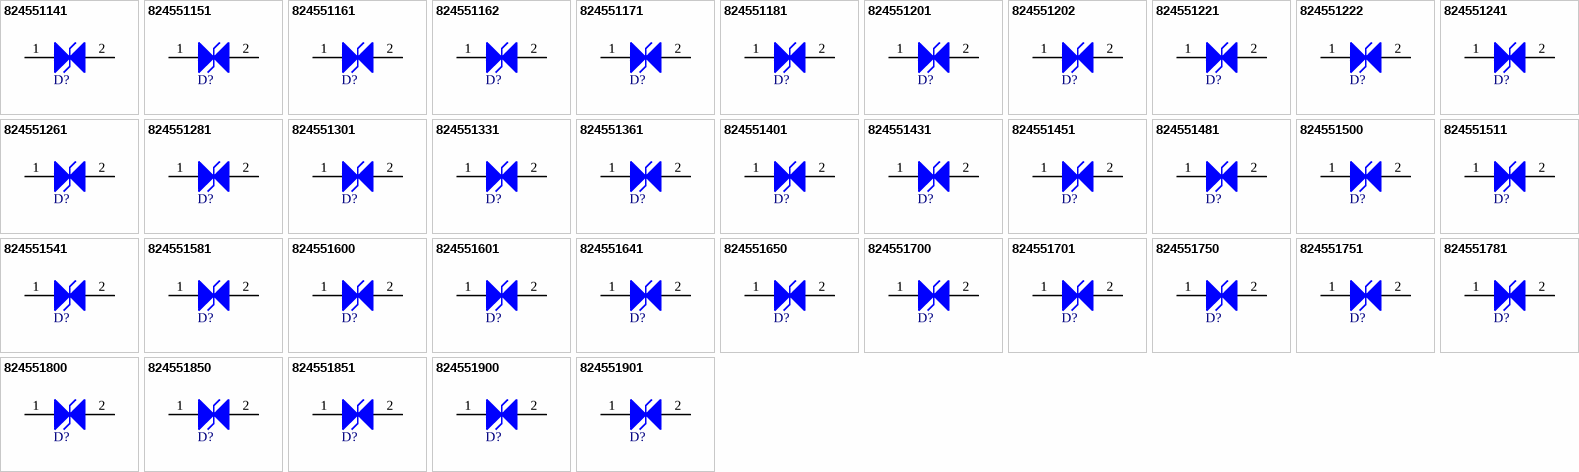
[diagram p8: symbols 824551141 to 824551901]

## 824551141
designator D?, comment 3000W, 14VDC  (value not drawn)
WE-TVSP SMT Power TVS Diode, DO-214AB, Bidirectional, 3000W, 14VDC; Manufacturer Part Number: 824551141; Manufacturer: Wurth Elektronik; Clamping Voltage: 23.2V; Operating Voltage (DC): 14V; (Reverse) Breakdown Voltage: 16.4V; (Reverse) Peak Pulse Current: 129.3A; ComponentLink1Description: Website Link; ComponentLink1URL: https://www.we-online.com/redexpert/article/824551141?ad; ComponentLink2Description: Datasheet Link; ComponentLink2URL: https://www.we-online.com/redexpert/spec/824551141?ad; Category: Surge Protection; Match Code: WE-TVSP; Mount: Surface Mount; Operating Temperature Max: 150°C; Operating Temperature Min: -65°C; Packaging: Tape and Reel; Case/Size Code: DO-214AB; Length: 6.86mm; Width: 5.9mm; Height: 2.5mm; Polarity: Bidirectional; Power Dissipation: 3000W
footprint WE-TVSP_DO-214AB_Bidirectional
pins: 1, 2

## 824551151
designator D?, comment 3000W, 15VDC  (value not drawn)
WE-TVSP SMT Power TVS Diode, DO-214AB, Bidirectional, 3000W, 15VDC; Manufacturer Part Number: 824551151; Manufacturer: Wurth Elektronik; Clamping Voltage: 24.4V; Operating Voltage (DC): 15V; (Reverse) Breakdown Voltage: 17.6V; (Reverse) Peak Pulse Current: 123A; ComponentLink1Description: Website Link; ComponentLink1URL: https://www.we-online.com/redexpert/article/824551151?ad; ComponentLink2Description: Datasheet Link; ComponentLink2URL: https://www.we-online.com/redexpert/spec/824551151?ad; Category: Surge Protection; Match Code: WE-TVSP; Mount: Surface Mount; Operating Temperature Max: 150°C; Operating Temperature Min: -65°C; Packaging: Tape and Reel; Case/Size Code: DO-214AB; Length: 6.86mm; Width: 5.9mm; Height: 2.5mm; Polarity: Bidirectional; Power Dissipation: 3000W
footprint WE-TVSP_DO-214AB_Bidirectional
pins: 1, 2

## 824551161
designator D?, comment 3000W, 16VDC  (value not drawn)
WE-TVSP SMT Power TVS Diode, DO-214AB, Bidirectional, 3000W, 16VDC; Manufacturer Part Number: 824551161; Manufacturer: Wurth Elektronik; Clamping Voltage: 26V; Operating Voltage (DC): 16V; (Reverse) Breakdown Voltage: 18.75V; (Reverse) Peak Pulse Current: 115.4A; ComponentLink1Description: Website Link; ComponentLink1URL: https://www.we-online.com/redexpert/article/824551161?ad; ComponentLink2Description: Datasheet Link; ComponentLink2URL: https://www.we-online.com/redexpert/spec/824551161?ad; Category: Surge Protection; Match Code: WE-TVSP; Mount: Surface Mount; Operating Temperature Max: 150°C; Operating Temperature Min: -65°C; Packaging: Tape and Reel; Case/Size Code: DO-214AB; Length: 6.86mm; Width: 5.9mm; Height: 2.5mm; Polarity: Bidirectional; Power Dissipation: 3000W
footprint WE-TVSP_DO-214AB_Bidirectional
pins: 1, 2

## 824551162
designator D?, comment 3000W, 160VDC  (value not drawn)
WE-TVSP SMT Power TVS Diode, DO-214AB, Bidirectional, 3000W, 160VDC; Manufacturer Part Number: 824551162; Manufacturer: Wurth Elektronik; Clamping Voltage: 259V; Operating Voltage (DC): 160V; (Reverse) Breakdown Voltage: 187.5V; (Reverse) Peak Pulse Current: 11.6A; ComponentLink1Description: Website Link; ComponentLink1URL: https://www.we-online.com/redexpert/article/824551162?ad; ComponentLink2Description: Datasheet Link; ComponentLink2URL: https://www.we-online.com/redexpert/spec/824551162?ad; Category: Surge Protection; Match Code: WE-TVSP; Mount: Surface Mount; Operating Temperature Max: 150°C; Operating Temperature Min: -65°C; Packaging: Tape and Reel; Case/Size Code: DO-214AB; Length: 6.86mm; Width: 5.9mm; Height: 2.5mm; Polarity: Bidirectional; Power Dissipation: 3000W
footprint WE-TVSP_DO-214AB_Bidirectional
pins: 1, 2

## 824551171
designator D?, comment 3000W, 17VDC  (value not drawn)
WE-TVSP SMT Power TVS Diode, DO-214AB, Bidirectional, 3000W, 17VDC; Manufacturer Part Number: 824551171; Manufacturer: Wurth Elektronik; Clamping Voltage: 27.6V; Operating Voltage (DC): 17V; (Reverse) Breakdown Voltage: 19.9V; (Reverse) Peak Pulse Current: 108.7A; ComponentLink1Description: Website Link; ComponentLink1URL: https://www.we-online.com/redexpert/article/824551171?ad; ComponentLink2Description: Datasheet Link; ComponentLink2URL: https://www.we-online.com/redexpert/spec/824551171?ad; Category: Surge Protection; Match Code: WE-TVSP; Mount: Surface Mount; Operating Temperature Max: 150°C; Operating Temperature Min: -65°C; Packaging: Tape and Reel; Case/Size Code: DO-214AB; Length: 6.86mm; Width: 5.9mm; Height: 2.5mm; Polarity: Bidirectional; Power Dissipation: 3000W
footprint WE-TVSP_DO-214AB_Bidirectional
pins: 1, 2

## 824551181
designator D?, comment 3000W, 18VDC  (value not drawn)
WE-TVSP SMT Power TVS Diode, DO-214AB, Bidirectional, 3000W, 18VDC; Manufacturer Part Number: 824551181; Manufacturer: Wurth Elektronik; Clamping Voltage: 29.2V; Operating Voltage (DC): 18V; (Reverse) Breakdown Voltage: 21.05V; (Reverse) Peak Pulse Current: 102.7A; ComponentLink1Description: Website Link; ComponentLink1URL: https://www.we-online.com/redexpert/article/824551181?ad; ComponentLink2Description: Datasheet Link; ComponentLink2URL: https://www.we-online.com/redexpert/spec/824551181?ad; Category: Surge Protection; Match Code: WE-TVSP; Mount: Surface Mount; Operating Temperature Max: 150°C; Operating Temperature Min: -65°C; Packaging: Tape and Reel; Case/Size Code: DO-214AB; Length: 6.86mm; Width: 5.9mm; Height: 2.5mm; Polarity: Bidirectional; Power Dissipation: 3000W
footprint WE-TVSP_DO-214AB_Bidirectional
pins: 1, 2

## 824551201
designator D?, comment 3000W, 20VDC  (value not drawn)
WE-TVSP SMT Power TVS Diode, DO-214AB, Bidirectional, 3000W, 20VDC; Manufacturer Part Number: 824551201; Manufacturer: Wurth Elektronik; Clamping Voltage: 32.4V; Operating Voltage (DC): 20V; (Reverse) Breakdown Voltage: 23.35V; (Reverse) Peak Pulse Current: 92.6A; ComponentLink1Description: Website Link; ComponentLink1URL: https://www.we-online.com/redexpert/article/824551201?ad; ComponentLink2Description: Datasheet Link; ComponentLink2URL: https://www.we-online.com/redexpert/spec/824551201?ad; Category: Surge Protection; Match Code: WE-TVSP; Mount: Surface Mount; Operating Temperature Max: 150°C; Operating Temperature Min: -65°C; Packaging: Tape and Reel; Case/Size Code: DO-214AB; Length: 6.86mm; Width: 5.9mm; Height: 2.5mm; Polarity: Bidirectional; Power Dissipation: 3000W
footprint WE-TVSP_DO-214AB_Bidirectional
pins: 1, 2